# EAGLE library part SL-2X8G_SMD_127 (library 1_USER)
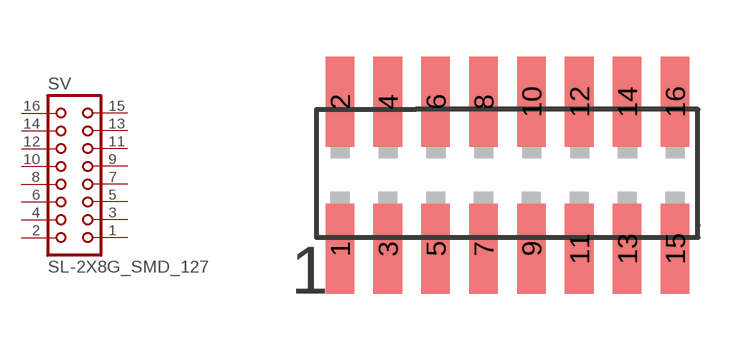
[diagram p4: symbol with the pads of SL-2X8G_SMD_127; footprint SL-2X8G_SMD_127]

Designator prefix SV

## SL-2X8G_SMD_127  [SL-2X8G_SMD_127]
1  1  pas
2  2  pas
3  3  pas
4  4  pas
5  5  pas
6  6  pas
7  7  pas
8  8  pas
9  9  pas
10  10  pas
11  11  pas
12  12  pas
13  13  pas
14  14  pas
15  15  pas
16  16  pas

## Footprint SL-2X8G_SMD_127 (pad centres in mm)
smd 0.76 x 2.4: 1 0,1.2; 2 0,5.1; 3 1.27,1.2; 4 1.27,5.1; 5 2.54,1.2; 6 2.54,5.1; 7 3.81,1.2; 8 3.81,5.1; 9 5.08,1.2; 10 5.08,5.1; 11 6.35,1.2; 12 6.35,5.1; 13 7.62,1.2; 14 7.62,5.1; 15 8.89,1.2; 16 8.89,5.1